# Altium footprint library Linear Technology Power Management Switching Regulator LTC1174-LTC3901.PcbLib: 163 footprints (part 4 of 11)
Each footprint in its own frame and in the unit in brackets; x right, y up, seen from the top. Pads: shape width x height; smd on the part's side, far side on the other; paste and mask are expansions set on the pad; w line width, h text height; cw(c..) or ccw(c..) is an arc to the next point about the centre after c.
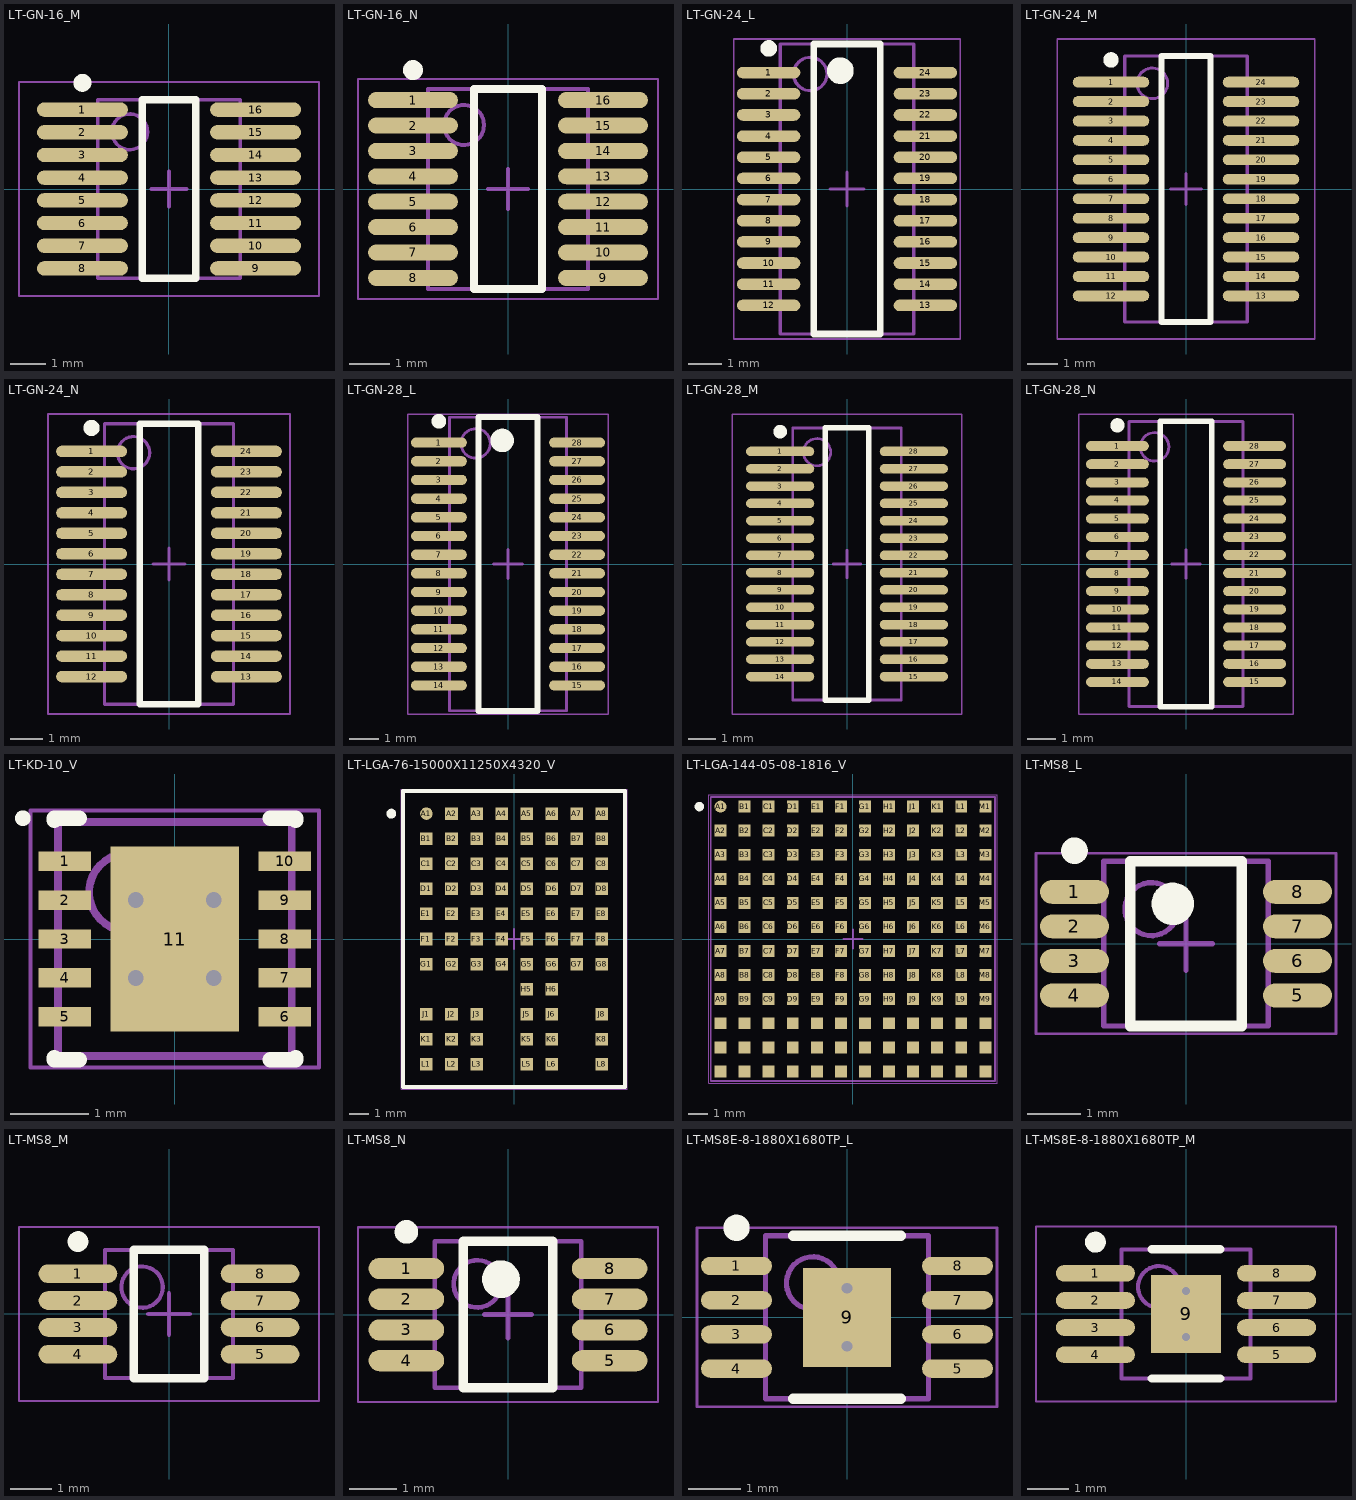
[diagram p3: the footprints below, top view; thin cyan lines are the x and y axes]

## LT-GN-16_M [mm] "SOP, 16-Leads, Body 5x4mm, Pitch 0.635mm, IPC Low Density"
height 1.75
pads (16):
  oval 2.55x0.4 smd: 1(-2.425,2.222) 2(-2.425,1.587) 3(-2.425,0.953) 4(-2.425,0.318) 5(-2.425,-0.318) 6(-2.425,-0.953) 7(-2.425,-1.587) 8(-2.425,-2.222) 9(2.425,-2.222) 10(2.425,-1.587) 11(2.425,-0.953) 12(2.425,-0.318) 13(2.425,0.318) 14(2.425,0.953) 15(2.425,1.587) 16(2.425,2.222)
Top Overlay:
  circle w0.25: c-2.425,2.973 r0.125
  lines w0.2: -0.75,-2.5 -0.75,2.5 0.75,2.5 0.75,-2.5 -0.75,-2.5
Mechanical 13:
  circle w0.1: c-1.1,1.6 r0.5
  lines w0.1: -2,-2.5 -2,2.5 2,2.5 2,-2.5 -2,-2.5
Mechanical 15:
  lines w0.05: -4.2,-3 -4.2,3 4.2,3 4.2,-3 -4.2,-3
  lines w0.1: -0.5,0 0.5,0 ; 0,-0.5 0,0.5
3D body: height 1.75, standoff 0.1, extent -2,-2.5 2,2.5

## LT-GN-16_N [mm] "SOP, 16-Leads, Body 5x4mm, Pitch 0.635mm, IPC Medium Density"
height 1.75
pads (16):
  oval 2.25x0.4 smd: 1(-2.375,2.222) 2(-2.375,1.587) 3(-2.375,0.953) 4(-2.375,0.318) 5(-2.375,-0.318) 6(-2.375,-0.953) 7(-2.375,-1.587) 8(-2.375,-2.222) 9(2.375,-2.222) 10(2.375,-1.587) 11(2.375,-0.953) 12(2.375,-0.318) 13(2.375,0.318) 14(2.375,0.953) 15(2.375,1.587) 16(2.375,2.222)
Top Overlay:
  circle w0.25: c-2.375,2.973 r0.125
  lines w0.2: -0.85,-2.5 -0.85,2.5 0.85,2.5 0.85,-2.5 -0.85,-2.5
Mechanical 13:
  circle w0.1: c-1.1,1.6 r0.5
  lines w0.1: -2,-2.5 -2,2.5 2,2.5 2,-2.5 -2,-2.5
Mechanical 15:
  lines w0.05: -3.75,-2.75 -3.75,2.75 3.75,2.75 3.75,-2.75 -3.75,-2.75
  lines w0.1: -0.5,0 0.5,0 ; 0,-0.5 0,0.5
3D body: height 1.75, standoff 0.1, extent -2,-2.5 2,2.5

## LT-GN-24_L [mm] "SOP, 24-Leads, Body 8.7x4mm, Pitch 0.635mm, IPC High Density"
height 1.75
pads (24):
  oval 1.9x0.35 smd: 1(-2.35,3.492) 2(-2.35,2.857) 3(-2.35,2.222) 4(-2.35,1.587) 5(-2.35,0.953) 6(-2.35,0.318) 7(-2.35,-0.318) 8(-2.35,-0.953) 9(-2.35,-1.587) 10(-2.35,-2.222) 11(-2.35,-2.857) 12(-2.35,-3.492) 13(2.35,-3.492) 14(2.35,-2.857) 15(2.35,-2.222) 16(2.35,-1.587) 17(2.35,-0.953) 18(2.35,-0.318) 19(2.35,0.318) 20(2.35,0.953) 21(2.35,1.587) 22(2.35,2.222) 23(2.35,2.857) 24(2.35,3.492)
Top Overlay:
  circle w0.25: c-2.35,4.217 r0.125
  circle w0.4: c-0.2,3.55 r0.2
  lines w0.2: -1,-4.35 -1,4.35 1,4.35 1,-4.35 -1,-4.35
Mechanical 13:
  circle w0.1: c-1.1,3.45 r0.5
  lines w0.1: -2,-4.35 -2,4.35 2,4.35 2,-4.35 -2,-4.35
Mechanical 15:
  lines w0.05: -3.4,-4.5 -3.4,4.5 3.4,4.5 3.4,-4.5 -3.4,-4.5
  lines w0.1: -0.5,0 0.5,0 ; 0,-0.5 0,0.5
3D body: height 1.75, standoff 0.1, extent -2,-4.35 2,4.35

## LT-GN-24_M [mm] "SOP, 24-Leads, Body 8.7x4mm, Pitch 0.635mm, IPC Low Density"
height 1.75
pads (24):
  oval 2.5x0.35 smd: 1(-2.45,3.492) 2(-2.45,2.857) 3(-2.45,2.222) 4(-2.45,1.587) 5(-2.45,0.953) 6(-2.45,0.318) 7(-2.45,-0.318) 8(-2.45,-0.953) 9(-2.45,-1.587) 10(-2.45,-2.222) 11(-2.45,-2.857) 12(-2.45,-3.492) 13(2.45,-3.492) 14(2.45,-2.857) 15(2.45,-2.222) 16(2.45,-1.587) 17(2.45,-0.953) 18(2.45,-0.318) 19(2.45,0.318) 20(2.45,0.953) 21(2.45,1.587) 22(2.45,2.222) 23(2.45,2.857) 24(2.45,3.492)
Top Overlay:
  circle w0.25: c-2.45,4.217 r0.125
  lines w0.2: -0.8,-4.35 -0.8,4.35 0.8,4.35 0.8,-4.35 -0.8,-4.35
Mechanical 13:
  circle w0.1: c-1.1,3.45 r0.5
  lines w0.1: -2,-4.35 -2,4.35 2,4.35 2,-4.35 -2,-4.35
Mechanical 15:
  lines w0.05: -4.2,-4.9 -4.2,4.9 4.2,4.9 4.2,-4.9 -4.2,-4.9
  lines w0.1: -0.5,0 0.5,0 ; 0,-0.5 0,0.5
3D body: height 1.75, standoff 0.1, extent -2,-4.35 2,4.35

## LT-GN-24_N [mm] "SOP, 24-Leads, Body 8.7x4mm, Pitch 0.635mm, IPC Medium Density"
height 1.75
pads (24):
  oval 2.2x0.35 smd: 1(-2.4,3.492) 2(-2.4,2.857) 3(-2.4,2.222) 4(-2.4,1.587) 5(-2.4,0.953) 6(-2.4,0.318) 7(-2.4,-0.318) 8(-2.4,-0.953) 9(-2.4,-1.587) 10(-2.4,-2.222) 11(-2.4,-2.857) 12(-2.4,-3.492) 13(2.4,-3.492) 14(2.4,-2.857) 15(2.4,-2.222) 16(2.4,-1.587) 17(2.4,-0.953) 18(2.4,-0.318) 19(2.4,0.318) 20(2.4,0.953) 21(2.4,1.587) 22(2.4,2.222) 23(2.4,2.857) 24(2.4,3.492)
Top Overlay:
  circle w0.25: c-2.4,4.217 r0.125
  lines w0.2: -0.9,-4.35 -0.9,4.35 0.9,4.35 0.9,-4.35 -0.9,-4.35
Mechanical 13:
  circle w0.1: c-1.1,3.45 r0.5
  lines w0.1: -2,-4.35 -2,4.35 2,4.35 2,-4.35 -2,-4.35
Mechanical 15:
  lines w0.05: -3.75,-4.65 -3.75,4.65 3.75,4.65 3.75,-4.65 -3.75,-4.65
  lines w0.1: -0.5,0 0.5,0 ; 0,-0.5 0,0.5
3D body: height 1.75, standoff 0.1, extent -2,-4.35 2,4.35

## LT-GN-28_L [mm] "SOP, 28-Leads, Body 9.98x3.98mm, Pitch 0.635mm, IPC High Density"
height 1.75
pads (28):
  oval 1.9x0.35 smd: 1(-2.35,4.127) 2(-2.35,3.492) 3(-2.35,2.857) 4(-2.35,2.222) 5(-2.35,1.587) 6(-2.35,0.953) 7(-2.35,0.318) 8(-2.35,-0.318) 9(-2.35,-0.953) 10(-2.35,-1.587) 11(-2.35,-2.222) 12(-2.35,-2.857) 13(-2.35,-3.492) 14(-2.35,-4.127) 15(2.35,-4.127) 16(2.35,-3.492) 17(2.35,-2.857) 18(2.35,-2.222) 19(2.35,-1.587) 20(2.35,-0.953) 21(2.35,-0.318) 22(2.35,0.318) 23(2.35,0.953) 24(2.35,1.587) 25(2.35,2.222) 26(2.35,2.857) 27(2.35,3.492) 28(2.35,4.127)
Top Overlay:
  circle w0.25: c-2.35,4.852 r0.125
  circle w0.4: c-0.2,4.2 r0.2
  lines w0.2: -1,-5 -1,5 1,5 1,-5 -1,-5
Mechanical 13:
  circle w0.1: c-1.1,4.1 r0.5
  lines w0.1: -1.99,-4.99 -1.99,4.99 1.99,4.99 1.99,-4.99 -1.99,-4.99
Mechanical 15:
  lines w0.05: -3.4,-5.1 -3.4,5.1 3.4,5.1 3.4,-5.1 -3.4,-5.1
  lines w0.1: -0.5,0 0.5,0 ; 0,-0.5 0,0.5
3D body: height 1.75, standoff 0.1, extent -2,-5 2,5

## LT-GN-28_M [mm] "SOP, 28-Leads, Body 9.98x3.98mm, Pitch 0.635mm, IPC Low Density"
height 1.75
pads (28):
  oval 2.5x0.35 smd: 1(-2.45,4.127) 2(-2.45,3.492) 3(-2.45,2.857) 4(-2.45,2.222) 5(-2.45,1.587) 6(-2.45,0.953) 7(-2.45,0.318) 8(-2.45,-0.318) 9(-2.45,-0.953) 10(-2.45,-1.587) 11(-2.45,-2.222) 12(-2.45,-2.857) 13(-2.45,-3.492) 14(-2.45,-4.127) 15(2.45,-4.127) 16(2.45,-3.492) 17(2.45,-2.857) 18(2.45,-2.222) 19(2.45,-1.587) 20(2.45,-0.953) 21(2.45,-0.318) 22(2.45,0.318) 23(2.45,0.953) 24(2.45,1.587) 25(2.45,2.222) 26(2.45,2.857) 27(2.45,3.492) 28(2.45,4.127)
Top Overlay:
  circle w0.25: c-2.45,4.852 r0.125
  lines w0.2: -0.8,-5 -0.8,5 0.8,5 0.8,-5 -0.8,-5
Mechanical 13:
  circle w0.1: c-1.1,4.1 r0.5
  lines w0.1: -1.99,-4.99 -1.99,4.99 1.99,4.99 1.99,-4.99 -1.99,-4.99
Mechanical 15:
  lines w0.05: -4.2,-5.5 -4.2,5.5 4.2,5.5 4.2,-5.5 -4.2,-5.5
  lines w0.1: -0.5,0 0.5,0 ; 0,-0.5 0,0.5
3D body: height 1.75, standoff 0.1, extent -2,-5 2,5

## LT-GN-28_N [mm] "SOP, 28-Leads, Body 9.98x3.98mm, Pitch 0.635mm, IPC Medium Density"
height 1.75
pads (28):
  oval 2.2x0.35 smd: 1(-2.4,4.127) 2(-2.4,3.492) 3(-2.4,2.857) 4(-2.4,2.222) 5(-2.4,1.587) 6(-2.4,0.953) 7(-2.4,0.318) 8(-2.4,-0.318) 9(-2.4,-0.953) 10(-2.4,-1.587) 11(-2.4,-2.222) 12(-2.4,-2.857) 13(-2.4,-3.492) 14(-2.4,-4.127) 15(2.4,-4.127) 16(2.4,-3.492) 17(2.4,-2.857) 18(2.4,-2.222) 19(2.4,-1.587) 20(2.4,-0.953) 21(2.4,-0.318) 22(2.4,0.318) 23(2.4,0.953) 24(2.4,1.587) 25(2.4,2.222) 26(2.4,2.857) 27(2.4,3.492) 28(2.4,4.127)
Top Overlay:
  circle w0.25: c-2.4,4.852 r0.125
  lines w0.2: -0.9,-5 -0.9,5 0.9,5 0.9,-5 -0.9,-5
Mechanical 13:
  circle w0.1: c-1.1,4.1 r0.5
  lines w0.1: -1.99,-4.99 -1.99,4.99 1.99,4.99 1.99,-4.99 -1.99,-4.99
Mechanical 15:
  lines w0.05: -3.75,-5.25 -3.75,5.25 3.75,5.25 3.75,-5.25 -3.75,-5.25
  lines w0.1: -0.5,0 0.5,0 ; 0,-0.5 0,0.5
3D body: height 1.75, standoff 0.1, extent -2,-5 2,5

## LT-KD-10_V [mm] "SON, 10-Leads, Body 3x3mm, Pitch 0.5mm, Thermal Pad 2.38x1.65mm"
height 0.6
pads (11):
  rect 0.675x0.25 smd mask+0.102: 1(-1.412,1) 2(-1.412,0.5) 3(-1.412,0) 4(-1.412,-0.5) 5(-1.412,-1) 6(1.413,-1) 7(1.413,-0.5) 8(1.413,0) 9(1.413,0.5) 10(1.413,1)
  rect 1.65x2.38 smd mask+0.102: 11(0,0)
via 0.5,-0.5 diameter 0.5 hole 0.2
via -0.5,-0.5 diameter 0.5 hole 0.2
via 0.5,0.5 diameter 0.5 hole 0.2
via -0.5,0.5 diameter 0.5 hole 0.2
Top Overlay:
  circle w0.1: c-1.95,1.55 r0.05
  lines w0.2: -1.55,-1.525 -1.55,-1.55 -1.225,-1.55 ; -1.55,1.525 -1.55,1.55 -1.225,1.55 ; 1.225,-1.55 1.55,-1.55 1.55,-1.525 ; 1.225,1.55 1.55,1.55 1.55,1.525
Mechanical 13:
  circle w0.1: c-0.6,0.6 r0.5
  lines w0.1: -1.5,-1.5 1.5,-1.5 1.5,1.5 -1.5,1.5 -1.5,-1.5
Mechanical 15:
  lines w0.05: -1.85,-1.65 1.85,-1.65 1.85,1.65 -1.85,1.65 -1.85,-1.65
  lines w0.1: -0.5,0 0.5,0 ; 0,-0.5 0,0.5
3D body: height 0.6, standoff 0, extent -1.5,-1.5 1.5,1.5

## LT-LGA-76-15000X11250X4320_V [mm] "LGA, 76-Leads, Body 15x11.25mm, Pitch 1.27mm"
height 4.42
pads (76):
  round 0.635 smd: A1(-4.445,6.35)
  rect 0.635x0.635 smd: A2(-3.175,6.35) A3(-1.905,6.35) A4(-0.635,6.35) A5(0.635,6.35) A6(1.905,6.35) A7(3.175,6.35) A8(4.445,6.35) B1(-4.445,5.08) B2(-3.175,5.08) B3(-1.905,5.08) B4(-0.635,5.08) B5(0.635,5.08) B6(1.905,5.08) B7(3.175,5.08) B8(4.445,5.08) C1(-4.445,3.81) C2(-3.175,3.81) C3(-1.905,3.81) C4(-0.635,3.81) C5(0.635,3.81) C6(1.905,3.81) C7(3.175,3.81) C8(4.445,3.81) D1(-4.445,2.54) D2(-3.175,2.54) D3(-1.905,2.54) D4(-0.635,2.54) D5(0.635,2.54) D6(1.905,2.54) D7(3.175,2.54) D8(4.445,2.54) E1(-4.445,1.27) E2(-3.175,1.27) E3(-1.905,1.27) E4(-0.635,1.27) E5(0.635,1.27) E6(1.905,1.27) E7(3.175,1.27) E8(4.445,1.27) F1(-4.445,0) F2(-3.175,0) F3(-1.905,0) F4(-0.635,0) F5(0.635,0) F6(1.905,0) F7(3.175,0) F8(4.445,0) G1(-4.445,-1.27) G2(-3.175,-1.27) G3(-1.905,-1.27) G4(-0.635,-1.27) G5(0.635,-1.27) G6(1.905,-1.27) G7(3.175,-1.27) G8(4.445,-1.27) H5(0.635,-2.54) H6(1.905,-2.54) J1(-4.445,-3.81) J2(-3.175,-3.81) J3(-1.905,-3.81) J5(0.635,-3.81) J6(1.905,-3.81) J8(4.445,-3.81) K1(-4.445,-5.08) K2(-3.175,-5.08) K3(-1.905,-5.08) K5(0.635,-5.08) K6(1.905,-5.08) K8(4.445,-5.08) L1(-4.445,-6.35) L2(-3.175,-6.35) L3(-1.905,-6.35) L5(0.635,-6.35) L6(1.905,-6.35) L8(4.445,-6.35)
Top Overlay:
  circle w0.25: c-6.225,6.35 r0.125
  lines w0.2: -5.625,-7.5 5.625,-7.5 5.625,7.5 -5.625,7.5 -5.625,-7.5
Mechanical 13:
  lines w0.1: -5.625,-7.5 -5.625,7.5 5.625,7.5 5.625,-7.5 -5.625,-7.5
Mechanical 15:
  lines w0.05: -5.725,-7.6 -5.725,7.6 5.725,7.6 5.725,-7.6 -5.725,-7.6
  lines w0.1: -0.5,0 0.5,0 ; 0,-0.5 0,0.5
3D body: height 4.42, standoff 0, extent -5.625,-7.5 5.625,7.5

## LT-LGA-144-05-08-1816_V [mm] "LGA, 144-Leads, Body 15x15mm, Pitch 1.27mm"
height 2.92
pads (144):
  round 0.63 smd: A1(-6.985,6.985)
  rect 0.63x0.63 smd: A2(-6.985,5.715) A3(-6.985,4.445) A4(-6.985,3.175) A5(-6.985,1.905) A6(-6.985,0.635) A7(-6.985,-0.635) A8(-6.985,-1.905) A9(-6.985,-3.175) A10(-6.985,-4.445) A11(-6.985,-5.715) A12(-6.985,-6.985) B1(-5.715,6.985) B2(-5.715,5.715) B3(-5.715,4.445) B4(-5.715,3.175) B5(-5.715,1.905) B6(-5.715,0.635) B7(-5.715,-0.635) B8(-5.715,-1.905) B9(-5.715,-3.175) B10(-5.715,-4.445) B11(-5.715,-5.715) B12(-5.715,-6.985) C1(-4.445,6.985) C2(-4.445,5.715) C3(-4.445,4.445) C4(-4.445,3.175) C5(-4.445,1.905) C6(-4.445,0.635) C7(-4.445,-0.635) C8(-4.445,-1.905) C9(-4.445,-3.175) C10(-4.445,-4.445) C11(-4.445,-5.715) C12(-4.445,-6.985) D1(-3.175,6.985) D2(-3.175,5.715) D3(-3.175,4.445) D4(-3.175,3.175) D5(-3.175,1.905) D6(-3.175,0.635) D7(-3.175,-0.635) D8(-3.175,-1.905) D9(-3.175,-3.175) D10(-3.175,-4.445) D11(-3.175,-5.715) D12(-3.175,-6.985) E1(-1.905,6.985) E2(-1.905,5.715) E3(-1.905,4.445) E4(-1.905,3.175) E5(-1.905,1.905) E6(-1.905,0.635) E7(-1.905,-0.635) E8(-1.905,-1.905) E9(-1.905,-3.175) E10(-1.905,-4.445) E11(-1.905,-5.715) E12(-1.905,-6.985) F1(-0.635,6.985) F2(-0.635,5.715) F3(-0.635,4.445) F4(-0.635,3.175) F5(-0.635,1.905) F6(-0.635,0.635) F7(-0.635,-0.635) F8(-0.635,-1.905) F9(-0.635,-3.175) F10(-0.635,-4.445) F11(-0.635,-5.715) F12(-0.635,-6.985) G1(0.635,6.985) G2(0.635,5.715) G3(0.635,4.445) G4(0.635,3.175) G5(0.635,1.905) G6(0.635,0.635) G7(0.635,-0.635) G8(0.635,-1.905) G9(0.635,-3.175) G10(0.635,-4.445) G11(0.635,-5.715) G12(0.635,-6.985) H1(1.905,6.985) H2(1.905,5.715) H3(1.905,4.445) H4(1.905,3.175) H5(1.905,1.905) H6(1.905,0.635) H7(1.905,-0.635) H8(1.905,-1.905) H9(1.905,-3.175) H10(1.905,-4.445) H11(1.905,-5.715) H12(1.905,-6.985) J1(3.175,6.985) J2(3.175,5.715) J3(3.175,4.445) J4(3.175,3.175) J5(3.175,1.905) J6(3.175,0.635) J7(3.175,-0.635) J8(3.175,-1.905) J9(3.175,-3.175) J10(3.175,-4.445) J11(3.175,-5.715) J12(3.175,-6.985) K1(4.445,6.985) K2(4.445,5.715) K3(4.445,4.445) K4(4.445,3.175) K5(4.445,1.905) K6(4.445,0.635) K7(4.445,-0.635) K8(4.445,-1.905) K9(4.445,-3.175) K10(4.445,-4.445) K11(4.445,-5.715) K12(4.445,-6.985) L1(5.715,6.985) L2(5.715,5.715) L3(5.715,4.445) L4(5.715,3.175) L5(5.715,1.905) L6(5.715,0.635) L7(5.715,-0.635) L8(5.715,-1.905) L9(5.715,-3.175) L10(5.715,-4.445) L11(5.715,-5.715) L12(5.715,-6.985) M1(6.985,6.985) M2(6.985,5.715) M3(6.985,4.445) M4(6.985,3.175) M5(6.985,1.905) M6(6.985,0.635) M7(6.985,-0.635) M8(6.985,-1.905) M9(6.985,-3.175) M10(6.985,-4.445) M11(6.985,-5.715) M12(6.985,-6.985)
Top Overlay:
  circle w0.25: c-8.1,6.985 r0.125
Mechanical 13:
  lines w0.1: -7.5,-7.5 -7.5,7.5 7.5,7.5 7.5,-7.5 -7.5,-7.5
Mechanical 15:
  lines w0.05: -7.6,-7.6 -7.6,7.6 7.6,7.6 7.6,-7.6 -7.6,-7.6
  lines w0.1: -0.5,0 0.5,0 ; 0,-0.5 0,0.5
3D body: height 2.92, standoff 0, extent -7.5,-7.5 7.5,7.5

## LT-MS8_L [mm] "SOP, 8-Leads, Body 3.1x3.1mm, Pitch 0.65mm, IPC High Density"
height 1.1
pads (8):
  oval 1.3x0.45 smd: 1(-2.1,0.975) 2(-2.1,0.325) 3(-2.1,-0.325) 4(-2.1,-0.975) 5(2.1,-0.975) 6(2.1,-0.325) 7(2.1,0.325) 8(2.1,0.975)
Top Overlay:
  circle w0.4: c-0.25,0.75 r0.2
  circle w0.25: c-2.1,1.75 r0.125
  lines w0.2: -1.05,-1.55 1.05,-1.55 1.05,1.55 -1.05,1.55 -1.05,-1.55
Mechanical 13:
  circle w0.1: c-0.65,0.65 r0.5
  lines w0.1: -1.55,-1.55 1.55,-1.55 1.55,1.55 -1.55,1.55 -1.55,-1.55
Mechanical 15:
  lines w0.05: -2.825,-1.7 2.825,-1.7 2.825,1.7 -2.825,1.7 -2.825,-1.7
  lines w0.1: -0.5,0 0.5,0 ; 0,-0.5 0,0.5
3D body: height 1.1, standoff 0.05, extent -1.55,-1.55 1.55,1.55

## LT-MS8_M [mm] "SOP, 8-Leads, Body 3.1x3.1mm, Pitch 0.65mm, IPC Low Density"
height 1.1
pads (8):
  oval 1.9x0.45 smd: 1(-2.2,0.975) 2(-2.2,0.325) 3(-2.2,-0.325) 4(-2.2,-0.975) 5(2.2,-0.975) 6(2.2,-0.325) 7(2.2,0.325) 8(2.2,0.975)
Top Overlay:
  circle w0.25: c-2.2,1.75 r0.125
  lines w0.2: -0.85,-1.55 0.85,-1.55 0.85,1.55 -0.85,1.55 -0.85,-1.55
Mechanical 13:
  circle w0.1: c-0.65,0.65 r0.5
  lines w0.1: -1.55,-1.55 1.55,-1.55 1.55,1.55 -1.55,1.55 -1.55,-1.55
Mechanical 15:
  lines w0.05: -3.625,-2.1 3.625,-2.1 3.625,2.1 -3.625,2.1 -3.625,-2.1
  lines w0.1: -0.5,0 0.5,0 ; 0,-0.5 0,0.5
3D body: height 1.1, standoff 0.05, extent -1.55,-1.55 1.55,1.55

## LT-MS8_N [mm] "SOP, 8-Leads, Body 3.1x3.1mm, Pitch 0.65mm, IPC Medium Density"
height 1.1
pads (8):
  oval 1.6x0.45 smd: 1(-2.15,0.975) 2(-2.15,0.325) 3(-2.15,-0.325) 4(-2.15,-0.975) 5(2.15,-0.975) 6(2.15,-0.325) 7(2.15,0.325) 8(2.15,0.975)
Top Overlay:
  circle w0.4: c-0.15,0.75 r0.2
  circle w0.25: c-2.15,1.75 r0.125
  lines w0.2: -0.95,-1.55 0.95,-1.55 0.95,1.55 -0.95,1.55 -0.95,-1.55
Mechanical 13:
  circle w0.1: c-0.65,0.65 r0.5
  lines w0.1: -1.55,-1.55 1.55,-1.55 1.55,1.55 -1.55,1.55 -1.55,-1.55
Mechanical 15:
  lines w0.05: -3.175,-1.85 3.175,-1.85 3.175,1.85 -3.175,1.85 -3.175,-1.85
  lines w0.1: -0.5,0 0.5,0 ; 0,-0.5 0,0.5
3D body: height 1.1, standoff 0.05, extent -1.55,-1.55 1.55,1.55

## LT-MS8E-8-1880X1680TP_L [mm] "SOP, 8-Leads, Body 3.1x3.1mm, Pitch 0.65mm, Thermal Pad 1.88x1.68mm, IPC High Density"
height 1.1
pads (9):
  oval 1.35x0.35 smd: 1(-2.1,0.975) 2(-2.1,0.325) 3(-2.1,-0.325) 4(-2.1,-0.975) 5(2.1,-0.975) 6(2.1,-0.325) 7(2.1,0.325) 8(2.1,0.975)
  rect 1.68x1.88 smd: 9(0,0)
via 0,0.55 diameter 0.5 hole 0.2
via 0,-0.55 diameter 0.5 hole 0.2
Top Overlay:
  circle w0.25: c-2.1,1.7 r0.125
  lines w0.2: -1.025,-1.55 1.025,-1.55 ; -1.025,1.55 1.025,1.55
Mechanical 13:
  circle w0.1: c-0.65,0.65 r0.5
  lines w0.1: -1.55,-1.55 -1.55,1.55 1.55,1.55 1.55,-1.55 -1.55,-1.55
Mechanical 15:
  lines w0.05: -2.85,-1.7 -2.85,1.7 2.85,1.7 2.85,-1.7 -2.85,-1.7
  lines w0.1: -0.5,0 0.5,0 ; 0,-0.5 0,0.5
3D body: height 1.1, standoff 0.05, extent -1.55,-1.55 1.55,1.55

## LT-MS8E-8-1880X1680TP_M [mm] "SOP, 8-Leads, Body 3.1x3.1mm, Pitch 0.65mm, Thermal Pad 1.88x1.68mm, IPC Low Density"
height 1.1
pads (9):
  oval 1.9x0.4 smd: 1(-2.175,0.975) 2(-2.175,0.325) 3(-2.175,-0.325) 4(-2.175,-0.975) 5(2.175,-0.975) 6(2.175,-0.325) 7(2.175,0.325) 8(2.175,0.975)
  rect 1.68x1.88 smd: 9(0,0)
via 0,0.55 diameter 0.5 hole 0.2
via 0,-0.55 diameter 0.5 hole 0.2
Top Overlay:
  circle w0.25: c-2.175,1.725 r0.125
  lines w0.2: -0.825,-1.55 0.825,-1.55 ; -0.825,1.55 0.825,1.55
Mechanical 13:
  circle w0.1: c-0.65,0.65 r0.5
  lines w0.1: -1.55,-1.55 -1.55,1.55 1.55,1.55 1.55,-1.55 -1.55,-1.55
Mechanical 15:
  lines w0.05: -3.6,-2.1 -3.6,2.1 3.6,2.1 3.6,-2.1 -3.6,-2.1
  lines w0.1: -0.5,0 0.5,0 ; 0,-0.5 0,0.5
3D body: height 1.1, standoff 0.05, extent -1.55,-1.55 1.55,1.55